# EAGLE library part 96B-LS-57202 (library U96-SVM)
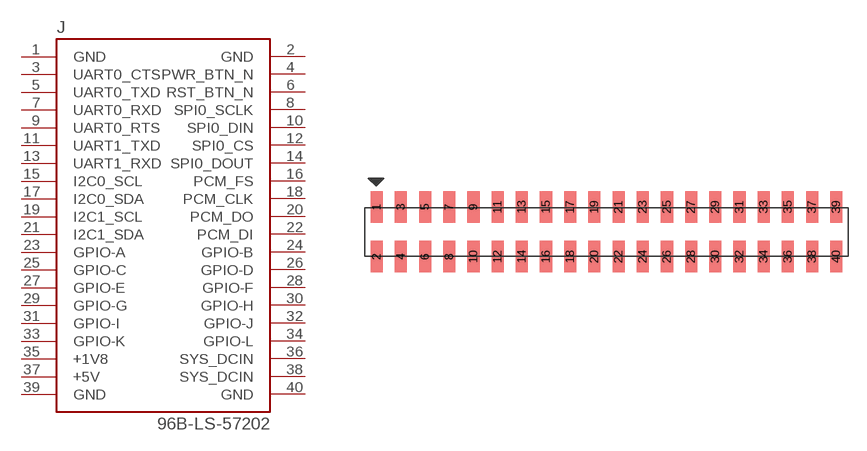
[diagram p13: symbol with the pads of 57202-G52-20LF; footprint 57202-G52-20LF]

Designator prefix J

## 96B-LS-57202  [57202-G52-20LF]
1  GND
2  GND
3  UART0_CTS
4  PWR_BTN_N
5  UART0_TXD
6  RST_BTN_N
7  UART0_RXD
8  SPI0_SCLK
9  UART0_RTS
10  SPI0_DIN
11  UART1_TXD
12  SPI0_CS
13  UART1_RXD
14  SPI0_DOUT
15  I2C0_SCL
16  PCM_FS
17  I2C0_SDA
18  PCM_CLK
19  I2C1_SCL
20  PCM_DO
21  I2C1_SDA
22  PCM_DI
23  GPIO-A
24  GPIO-B
25  GPIO-C
26  GPIO-D
27  GPIO-E
28  GPIO-F
29  GPIO-G
30  GPIO-H
31  GPIO-I
32  GPIO-J
33  GPIO-K
34  GPIO-L
35  +1V8
36  SYS_DCIN
37  +5V
38  SYS_DCIN
39  GND
40  GND

## Footprint 57202-G52-20LF (pad centres in mm)
smd 1 x 2.6: 1 -19,2.05; 2 -19,-2.05; 3 -17,2.05; 4 -17,-2.05; 5 -15,2.05; 6 -15,-2.05; 7 -13,2.05; 8 -13,-2.05; 9 -11,2.05; 10 -11,-2.05; 11 -9,2.05; 12 -9,-2.05; 13 -7,2.05; 14 -7,-2.05; 15 -5,2.05; 16 -5,-2.05; 17 -3,2.05; 18 -3,-2.05; 19 -1,2.05; 20 -1,-2.05; 21 1,2.05; 22 1,-2.05; 23 3,2.05; 24 3,-2.05; 25 5,2.05; 26 5,-2.05; 27 7,2.05; 28 7,-2.05; 29 9,2.05; 30 9,-2.05; 31 11,2.05; 32 11,-2.05; 33 13,2.05; 34 13,-2.05; 35 15,2.05; 36 15,-2.05; 37 17,2.05; 38 17,-2.05; 39 19,2.05; 40 19,-2.05